# EAGLE library part 76 (library display-lcd-lxd)
8 AlphaNumerical Digit, .50" (12.70) Multiplexed Display Additional Descriptors: none
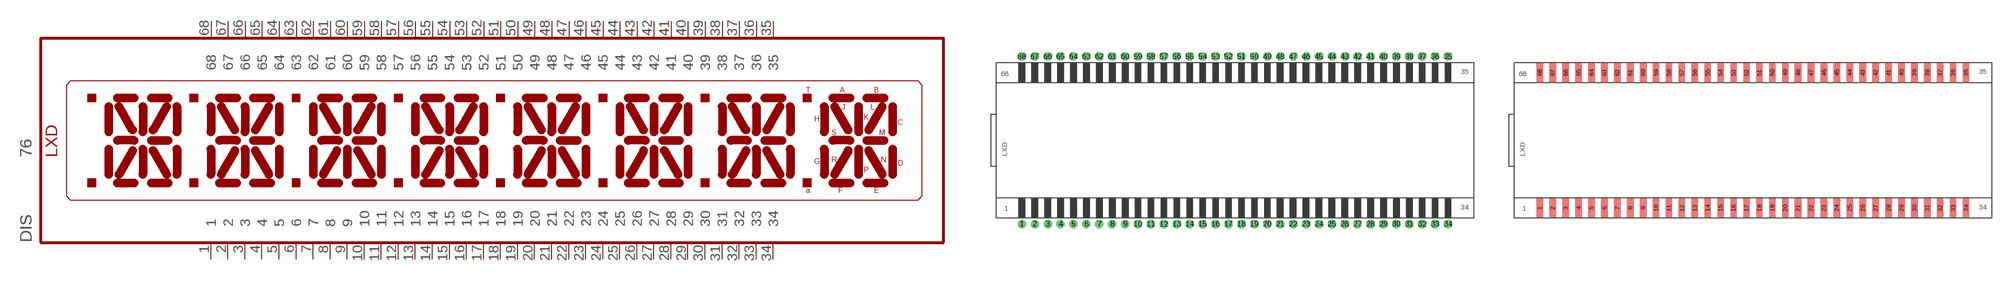
[diagram p35: symbol with the pads of 76-D; footprints 76-D, 76-E]

Designator prefix DIS

## 76DIP  [76-D]
1  1  pas
2  2  pas
3  3  pas
4  4  pas
5  5  pas
6  6  pas
7  7  pas
8  8  pas
9  9  pas
10  10  pas
11  11  pas
12  12  pas
13  13  pas
14  14  pas
15  15  pas
16  16  pas
17  17  pas
18  18  pas
19  19  pas
20  20  pas
21  21  pas
22  22  pas
23  23  pas
24  24  pas
25  25  pas
26  26  pas
27  27  pas
28  28  pas
29  29  pas
30  30  pas
31  31  pas
32  32  pas
33  33  pas
34  34  pas
35  35  pas
36  36  pas
37  37  pas
38  38  pas
39  39  pas
40  40  pas
41  41  pas
42  42  pas
43  43  pas
44  44  pas
45  45  pas
46  46  pas
47  47  pas
48  48  pas
49  49  pas
50  50  pas
51  51  pas
52  52  pas
53  53  pas
54  54  pas
55  55  pas
56  56  pas
57  57  pas
58  58  pas
59  59  pas
60  60  pas
61  61  pas
62  62  pas
63  63  pas
64  64  pas
65  65  pas
66  66  pas
67  67  pas
68  68  pas

## 76SMD  [76-E]
Pads as for 76-D

## Footprint 76-D (pad centres in mm)
Glass Size: 3.70" x 1.20" &nbsp &nbsp &nbsp &nbsp &nbsp &nbsp &nbsp &nbsp &nbsp (93.98 x 30.48)
drill 0.813 pad 1.6: 1 -41.91,-16.51
drill 0.813 pad 1.6 octagon: 2 -39.37,-16.51; 3 -36.83,-16.51; 4 -34.29,-16.51; 5 -31.75,-16.51; 6 -29.21,-16.51; 7 -26.67,-16.51; 8 -24.13,-16.51; 9 -21.59,-16.51; 10 -19.05,-16.51; 11 -16.51,-16.51; 12 -13.97,-16.51; 13 -11.43,-16.51; 14 -8.89,-16.51; 15 -6.35,-16.51; 16 -3.81,-16.51; 17 -1.27,-16.51; 18 1.27,-16.51; 19 3.81,-16.51; 20 6.35,-16.51; 21 8.89,-16.51; 22 11.43,-16.51; 23 13.97,-16.51; 24 16.51,-16.51; 25 19.05,-16.51; 26 21.59,-16.51; 27 24.13,-16.51; 28 26.67,-16.51; 29 29.21,-16.51; 30 31.75,-16.51; 31 34.29,-16.51; 32 36.83,-16.51; 33 39.37,-16.51; 34 41.91,-16.51; 35 41.91,16.51; 36 39.37,16.51; 37 36.83,16.51; 38 34.29,16.51; 39 31.75,16.51; 40 29.21,16.51; 41 26.67,16.51; 42 24.13,16.51; 43 21.59,16.51; 44 19.05,16.51; 45 16.51,16.51; 46 13.97,16.51; 47 11.43,16.51; 48 8.89,16.51; 49 6.35,16.51; 50 3.81,16.51; 51 1.27,16.51; 52 -1.27,16.51; 53 -3.81,16.51; 54 -6.35,16.51; 55 -8.89,16.51; 56 -11.43,16.51; 57 -13.97,16.51; 58 -16.51,16.51; 59 -19.05,16.51; 60 -21.59,16.51; 61 -24.13,16.51; 62 -26.67,16.51; 63 -29.21,16.51; 64 -31.75,16.51; 65 -34.29,16.51; 66 -36.83,16.51; 67 -39.37,16.51; 68 -41.91,16.51

## Footprint 76-E (pad centres in mm)
Glass Size: 3.70" x 1.20" &nbsp &nbsp &nbsp &nbsp &nbsp &nbsp &nbsp &nbsp &nbsp (93.98 x 30.48)
smd 1.27 x 3.81: 1 -41.91,-13.335; 2 -39.37,-13.335; 3 -36.83,-13.335; 4 -34.29,-13.335; 5 -31.75,-13.335; 6 -29.21,-13.335; 7 -26.67,-13.335; 8 -24.13,-13.335; 9 -21.59,-13.335; 10 -19.05,-13.335; 11 -16.51,-13.335; 12 -13.97,-13.335; 13 -11.43,-13.335; 14 -8.89,-13.335; 15 -6.35,-13.335; 16 -3.81,-13.335; 17 -1.27,-13.335; 18 1.27,-13.335; 19 3.81,-13.335; 20 6.35,-13.335; 21 8.89,-13.335; 22 11.43,-13.335; 23 13.97,-13.335; 24 16.51,-13.335; 25 19.05,-13.335; 26 21.59,-13.335; 27 24.13,-13.335; 28 26.67,-13.335; 29 29.21,-13.335; 30 31.75,-13.335; 31 34.29,-13.335; 32 36.83,-13.335; 33 39.37,-13.335; 34 41.91,-13.335; 35 41.91,13.335; 36 39.37,13.335; 37 36.83,13.335; 38 34.29,13.335; 39 31.75,13.335; 40 29.21,13.335; 41 26.67,13.335; 42 24.13,13.335; 43 21.59,13.335; 44 19.05,13.335; 45 16.51,13.335; 46 13.97,13.335; 47 11.43,13.335; 48 8.89,13.335; 49 6.35,13.335; 50 3.81,13.335; 51 1.27,13.335; 52 -1.27,13.335; 53 -3.81,13.335; 54 -6.35,13.335; 55 -8.89,13.335; 56 -11.43,13.335; 57 -13.97,13.335; 58 -16.51,13.335; 59 -19.05,13.335; 60 -21.59,13.335; 61 -24.13,13.335; 62 -26.67,13.335; 63 -29.21,13.335; 64 -31.75,13.335; 65 -34.29,13.335; 66 -36.83,13.335; 67 -39.37,13.335; 68 -41.91,13.335